# EAGLE library part PAN1322 (library pandaLight)
All-In-One, Place and Play Bluetooth Module
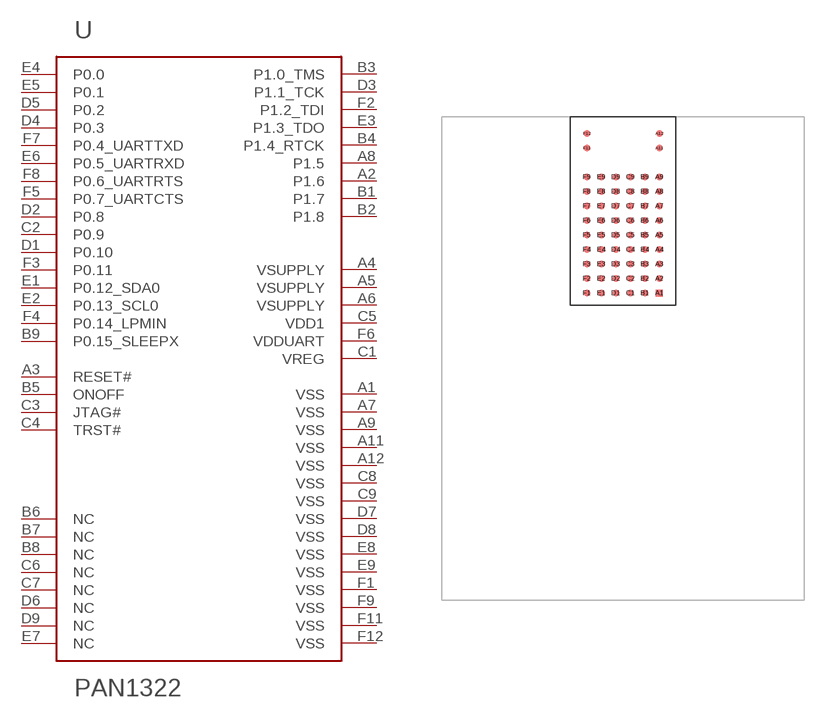
[diagram p9: symbol with the pads of PAN1322; footprint PAN1322]

Designator prefix -

## PAN1322  [PAN1322]
A1  VSS  pwr
A2  P1.6
A3  RESET#  in
A4  VSUPPLY  pwr
A5  VSUPPLY  pwr
A6  VSUPPLY  pwr
A7  VSS  pwr
A8  P1.5
A9  VSS  pwr
A11  VSS  pwr
A12  VSS  pwr
B1  P1.7
B2  P1.8
B3  P1.0_TMS
B4  P1.4_RTCK
B5  ONOFF  in
B6  NC  nc
B7  NC  nc
B8  NC  nc
B9  P0.15_SLEEPX
C1  VREG  sup
C2  P0.9
C3  JTAG#  in
C4  TRST#  in
C5  VDD1  pwr
C6  NC  nc
C7  NC  nc
C8  VSS  pwr
C9  VSS  pwr
D1  P0.10
D2  P0.8
D3  P1.1_TCK
D4  P0.3
D5  P0.2
D6  NC  nc
D7  VSS  pwr
D8  VSS  pwr
D9  NC  nc
E1  P0.12_SDA0
E2  P0.13_SCL0
E3  P1.3_TDO
E4  P0.0
E5  P0.1
E6  P0.5_UARTRXD
E7  NC  nc
E8  VSS  pwr
E9  VSS  pwr
F1  VSS  pwr
F2  P1.2_TDI
F3  P0.11
F4  P0.14_LPMIN
F5  P0.7_UARTCTS
F6  VDDUART  pwr
F7  P0.4_UARTTXD
F8  P0.6_UARTRTS
F9  VSS  pwr
F11  VSS  pwr
F12  VSS  pwr

## Footprint PAN1322 (pad centres in mm)
smd 0.6 x 0.6: A1 3,-6.6; A2 3,-5.4; A3 3,-4.2; A4 3,-3; A5 3,-1.8; A6 3,-0.6; A7 3,0.6; A8 3,1.8; A9 3,3; A11 3,5.4; A12 3,6.6; B1 1.8,-6.6; B2 1.8,-5.4; B3 1.8,-4.2; B4 1.8,-3; B5 1.8,-1.8; B6 1.8,-0.6; B7 1.8,0.6; B8 1.8,1.8; B9 1.8,3; C1 0.6,-6.6; C2 0.6,-5.4; C3 0.6,-4.2; C4 0.6,-3; C5 0.6,-1.8; C6 0.6,-0.6; C7 0.6,0.6; C8 0.6,1.8; C9 0.6,3; D1 -0.6,-6.6; D2 -0.6,-5.4; D3 -0.6,-4.2; D4 -0.6,-3; D5 -0.6,-1.8; D6 -0.6,-0.6; D7 -0.6,0.6; D8 -0.6,1.8; D9 -0.6,3; E1 -1.8,-6.6; E2 -1.8,-5.4; E3 -1.8,-4.2; E4 -1.8,-3; E5 -1.8,-1.8; E6 -1.8,-0.6; E7 -1.8,0.6; E8 -1.8,1.8; E9 -1.8,3; F1 -3,-6.6; F2 -3,-5.4; F3 -3,-4.2; F4 -3,-3; F5 -3,-1.8; F6 -3,-0.6; F7 -3,0.6; F8 -3,1.8; F9 -3,3; F11 -3,5.4; F12 -3,6.6